# EAGLE library part LM2677* (library protestSign)
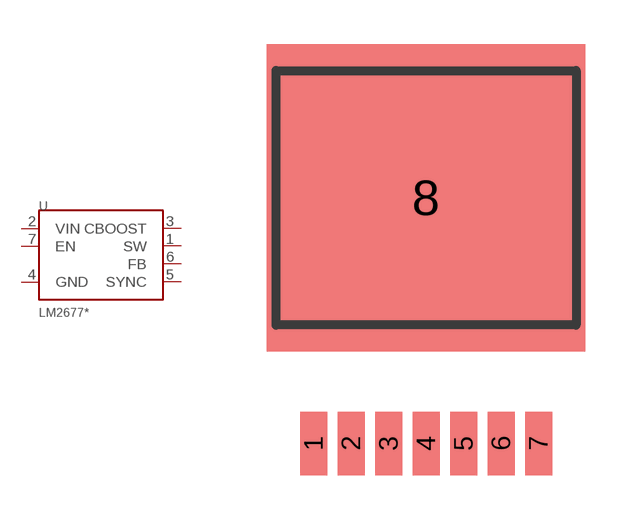
[diagram p1: symbol with the pads of TO-263-7; footprint TO-263-7]

Designator prefix U

## LM2677S  [TO-263-7]
1  SW
2  VIN
3  CBOOST
4  GND
5  SYNC
6  FB
7  EN

## Footprint TO-263-7 (pad centres in mm)
smd 0.914 x 2.159: 1 -3.81,-8.331; 2 -2.54,-8.331; 3 -1.27,-8.331; 4 0,-8.331; 5 1.27,-8.331; 6 2.54,-8.331; 7 3.81,-8.331
smd 10.795 x 10.414: 8 0,0